# EAGLE library part MOLEX-2X10 (library Header and Connector)
Molex 2x10 Ways Connector Created by: Wai Weng
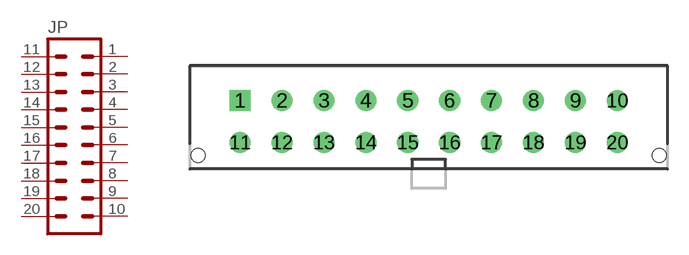
[diagram p41: symbol with the pads of MOLEX-43045-2012; footprint MOLEX-43045-2012]

Designator prefix JP

## MOLEX-2X10_(MICROFIT-3.0-TH) (DESC: Molex Micro-Fit 3.0 2x10; MF: Molex; MPN: 43045-2012; VALUE: 2x10 Ways)  [MOLEX-43045-2012]
1  2  pas
2  4  pas
3  6  pas
4  8  pas
5  10  pas
6  12  pas
7  14  pas
8  16  pas
9  18  pas
10  20  pas
11  1  pas
12  3  pas
13  5  pas
14  7  pas
15  9  pas
16  11  pas
17  13  pas
18  15  pas
19  17  pas
20  19  pas

## Footprint MOLEX-43045-2012 (pad centres in mm)
Molex Micro-Fit 3.0 2x10 Ways Created by: Wai Weng
drill 1 square: 1 -13.5,1.215
drill 1: 2 -10.5,1.215; 3 -7.5,1.215; 4 -4.5,1.215; 5 -1.5,1.215; 6 1.5,1.215; 7 4.5,1.215; 8 7.5,1.215; 9 10.5,1.215; 10 13.5,1.215; 11 -13.5,-1.785; 12 -10.5,-1.785; 13 -7.5,-1.785; 14 -4.5,-1.785; 15 -1.5,-1.785; 16 1.5,-1.785; 17 4.5,-1.785; 18 7.5,-1.785; 19 10.5,-1.785; 20 13.5,-1.785
hole 1 at -16.5,-2.725
hole 1 at 16.5,-2.725